# EAGLE library part LT1763 (library linear-technology)
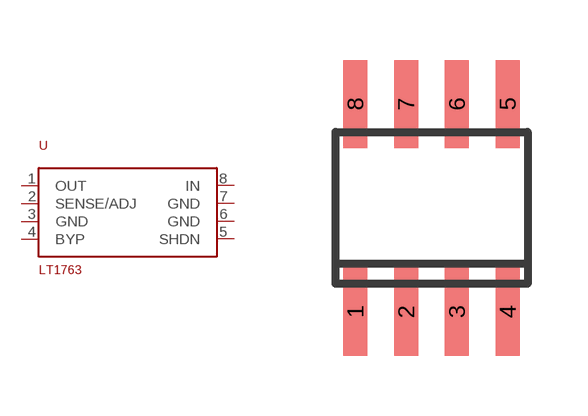
[diagram p31: symbol with the pads of SOIC8; footprint SOIC8]

Designator prefix -

## LT1763  [SOIC8]
1  OUT
2  SENSE/ADJ
3  GND
4  BYP
5  SHDN
6  GND
7  GND
8  IN

## Footprint SOIC8 (pad centres in mm)
Small Outline IC
smd 0.6 x 2.2: 1 -1.905,-2.6; 2 -0.635,-2.6; 3 0.635,-2.6; 4 1.905,-2.6; 5 1.905,2.6; 6 0.635,2.6; 7 -0.635,2.6; 8 -1.905,2.6